# EAGLE library part HIROSE-DF12-32DS (library ZippyComponentLibrary)
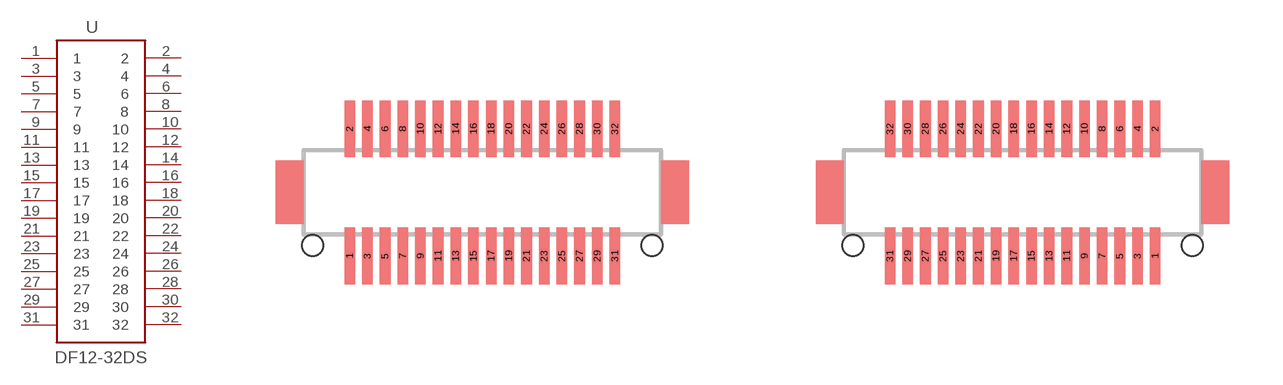
[diagram p5: symbol with the pads of DF12(3.0)-32DS-0.5V(86)-FEMALE; footprints DF12(3.0)-32DS-0.5V(86)-FEMALE, DF12(3.0)-32DS-0.5V(86)-MALE]

Designator prefix -

## HIROSE-DF12-32DSFEMALE  [DF12(3.0)-32DS-0.5V(86)-FEMALE]
1  1
2  2
3  3
4  4
5  5
6  6
7  7
8  8
9  9
10  10
11  11
12  12
13  13
14  14
15  15
16  16
17  17
18  18
19  19
20  20
21  21
22  22
23  23
24  24
25  25
26  26
27  27
28  28
29  29
30  30
31  31
32  32

## HIROSE-DF12-32DSMALE  [DF12(3.0)-32DS-0.5V(86)-MALE]
Pads as for DF12(3.0)-32DS-0.5V(86)-FEMALE

## Footprint DF12(3.0)-32DS-0.5V(86)-FEMALE (pad centres in mm)
smd 0.3 x 1.6: 1 -3.75,-1.8; 2 -3.75,1.8; 3 -3.25,-1.8; 4 -3.25,1.8; 5 -2.75,-1.8; 6 -2.75,1.8; 7 -2.25,-1.8; 8 -2.25,1.8; 9 -1.75,-1.8; 10 -1.75,1.8; 11 -1.25,-1.8; 12 -1.25,1.8; 13 -0.75,-1.8; 14 -0.75,1.8; 15 -0.25,-1.8; 16 -0.25,1.8; 17 0.25,-1.8; 18 0.25,1.8; 19 0.75,-1.8; 20 0.75,1.8; 21 1.25,-1.8; 22 1.25,1.8; 23 1.75,-1.8; 24 1.75,1.8; 25 2.25,-1.8; 26 2.25,1.8; 27 2.75,-1.8; 28 2.75,1.8; 29 3.25,-1.8; 30 3.25,1.8; 31 3.75,-1.8; 32 3.75,1.8
hole 0.6 at -4.8,-1.5
hole 0.6 at 4.8,-1.5

## Footprint DF12(3.0)-32DS-0.5V(86)-MALE (pad centres in mm)
smd 0.3 x 1.6: 1 3.75,-1.8; 2 3.75,1.8; 3 3.25,-1.8; 4 3.25,1.8; 5 2.75,-1.8; 6 2.75,1.8; 7 2.25,-1.8; 8 2.25,1.8; 9 1.75,-1.8; 10 1.75,1.8; 11 1.25,-1.8; 12 1.25,1.8; 13 0.75,-1.8; 14 0.75,1.8; 15 0.25,-1.8; 16 0.25,1.8; 17 -0.25,-1.8; 18 -0.25,1.8; 19 -0.75,-1.8; 20 -0.75,1.8; 21 -1.25,-1.8; 22 -1.25,1.8; 23 -1.75,-1.8; 24 -1.75,1.8; 25 -2.25,-1.8; 26 -2.25,1.8; 27 -2.75,-1.8; 28 -2.75,1.8; 29 -3.25,-1.8; 30 -3.25,1.8; 31 -3.75,-1.8; 32 -3.75,1.8
hole 0.6 at -4.8,-1.5
hole 0.6 at 4.8,-1.5